# Altium schematic symbol library V_№8.SchLib: 4 symbols
Pins are listed as number, name and electrical type; pins without a type are passive.

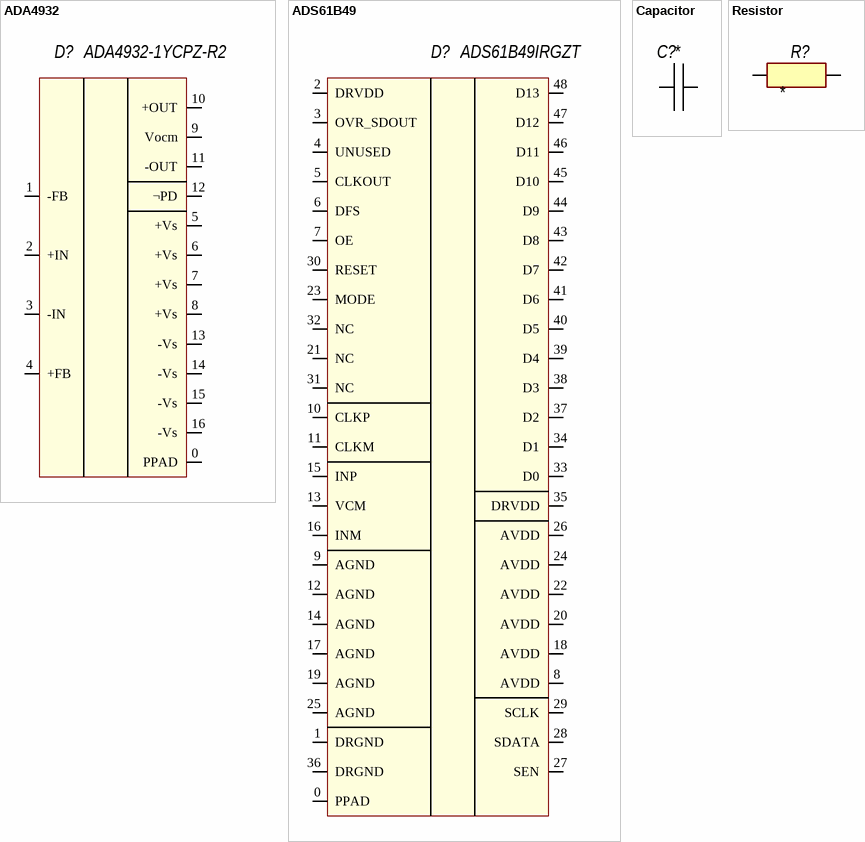
[diagram p0: symbols ADA4932 to Resistor]

## ADA4932
designator D?, comment ADA4932-1YCPZ-R2
Manufacturer: Analog Devices Inc.; HelpURL: https://www.digikey.com/product-detail/en/analog-devices-inc/ADA4932-1YCPZ-R2/ADA4932-1YCPZ-R2TR-ND/1981972; PartNumber: ADA4932-1YCPZ-R2; Package: 6-VFQFN Exposed Pad, CSP
footprint QFN50P300X300X100_HS-17N (QFN, 16-Leads, Body 3,00x3,00mm, Pitch 0,50mm, Thermal Pad 1,30x1,30mm, IPC Medium Density)
pins: 0 PPAD, 1 -FB, 2 +IN, 3 -IN, 4 +FB, 5 +Vs, 6 +Vs, 7 +Vs, 8 +Vs, 9 Vocm, 10 +OUT, 11 -OUT, 12 ¬PD, 13 -Vs, 14 -Vs, 15 -Vs, 16 -Vs

## ADS61B49
designator D?, comment ADS61B49IRGZT
Manufacturer: Texas Instruments; HelpURL: https://www.digikey.com/product-detail/en/texas-instruments/ADS61B49IRGZT/296-24045-2-ND/1990125; PartNumber: ADS61B49IRGZT; Package: 48-VQFN (7x7)
footprint QFN50P700X700X100_HS-49N (QFN, 48-Leads, Body 7,00x7,00mm, Pitch 0,50mm, Thermal Pad 5,60x5,60mm, IPC Medium Density)
pins: 0 PPAD, 1 DRGND, 2 DRVDD, 3 OVR_SDOUT, 4 UNUSED, 5 CLKOUT, 6 DFS, 7 OE, 8 AVDD, 9 AGND, 10 CLKP, 11 CLKM, 12 AGND, 13 VCM, 14 AGND, 15 INP, 16 INM, 17 AGND, 18 AVDD, 19 AGND, 20 AVDD, 21 NC, 22 AVDD, 23 MODE, 24 AVDD, 25 AGND, 26 AVDD, 27 SEN, 28 SDATA, 29 SCLK, 30 RESET, 31 NC, 32 NC, 33 D0, 34 D1, 35 DRVDD, 36 DRGND, 37 D2, 38 D3, 39 D4, 40 D5, 41 D6, 42 D7, 43 D8, 44 D9, 45 D10, 46 D11, 47 D12, 48 D13

## Capacitor
designator C?
HelpURL: *; PartNumber: *; Manufacturer: *; Package: *; Value: *
footprint 0101
pins: 1 -FB, 2 +IN

## Resistor
designator R?
HelpURL: *; Model: *; Manufacturer: *; Package: *; Value: *
footprint 0201
pins: 1 0, 2